# EAGLE library part 532955-7 (library con-amp)
PCB Connector
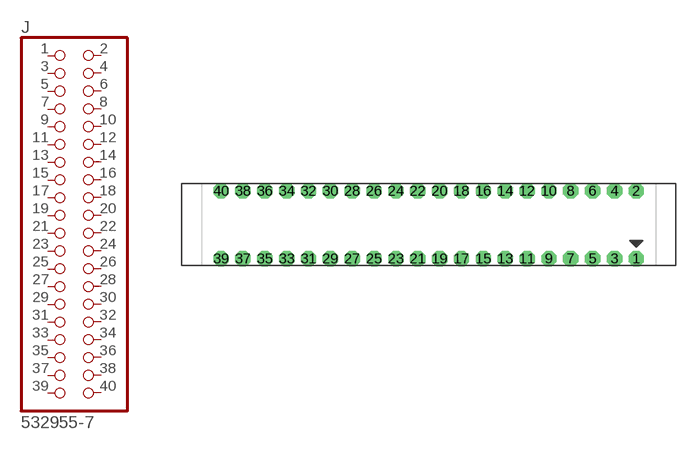
[diagram p133: symbol with the pads of 532955-7; footprint 532955-7]

Designator prefix J

## 532955-7  [532955-7]
1  1  pas
2  2  pas
3  3  pas
4  4  pas
5  5  pas
6  6  pas
7  7  pas
8  8  pas
9  9  pas
10  10  pas
11  11  pas
12  12  pas
13  13  pas
14  14  pas
15  15  pas
16  16  pas
17  17  pas
18  18  pas
19  19  pas
20  20  pas
21  21  pas
22  22  pas
23  23  pas
24  24  pas
25  25  pas
26  26  pas
27  27  pas
28  28  pas
29  29  pas
30  30  pas
31  31  pas
32  32  pas
33  33  pas
34  34  pas
35  35  pas
36  36  pas
37  37  pas
38  38  pas
39  39  pas
40  40  pas

## Footprint 532955-7 (pad centres in mm)
PCB Connector 40 Pin Female Receptacal, 2x20, 0.1" spacing
drill 1.016 pad 1.778 octagon: 1 24.13,-3.937; 2 24.13,3.937; 3 21.59,-3.937; 4 21.59,3.937; 5 19.05,-3.937; 6 19.05,3.937; 7 16.51,-3.937; 8 16.51,3.937; 9 13.97,-3.937; 10 13.97,3.937; 11 11.43,-3.937; 12 11.43,3.937; 13 8.89,-3.937; 14 8.89,3.937; 15 6.35,-3.937; 16 6.35,3.937; 17 3.81,-3.937; 18 3.81,3.937; 19 1.27,-3.937; 20 1.27,3.937; 21 -1.27,-3.937; 22 -1.27,3.937; 23 -3.81,-3.937; 24 -3.81,3.937; 25 -6.35,-3.937; 26 -6.35,3.937; 27 -8.89,-3.937; 28 -8.89,3.937; 29 -11.43,-3.937; 30 -11.43,3.937; 31 -13.97,-3.937; 32 -13.97,3.937; 33 -16.51,-3.937; 34 -16.51,3.937; 35 -19.05,-3.937; 36 -19.05,3.937; 37 -21.59,-3.937; 38 -21.59,3.937; 39 -24.13,-3.937; 40 -24.13,3.937